# Altium schematic symbol library SCH - Switches - SPDT.SchLib: 1 symbol
Pins are listed as number, name and electrical type; pins without a type are passive.

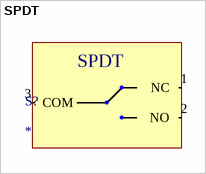
[diagram p0: symbol SPDT]

## SPDT
designator S?
pins: 1 NC, 2 NO, 3 COM